# Altium integrated library Controls_Components.IntLib: 5 symbols
Pins are listed as number, name and electrical type; pins without a type are passive.

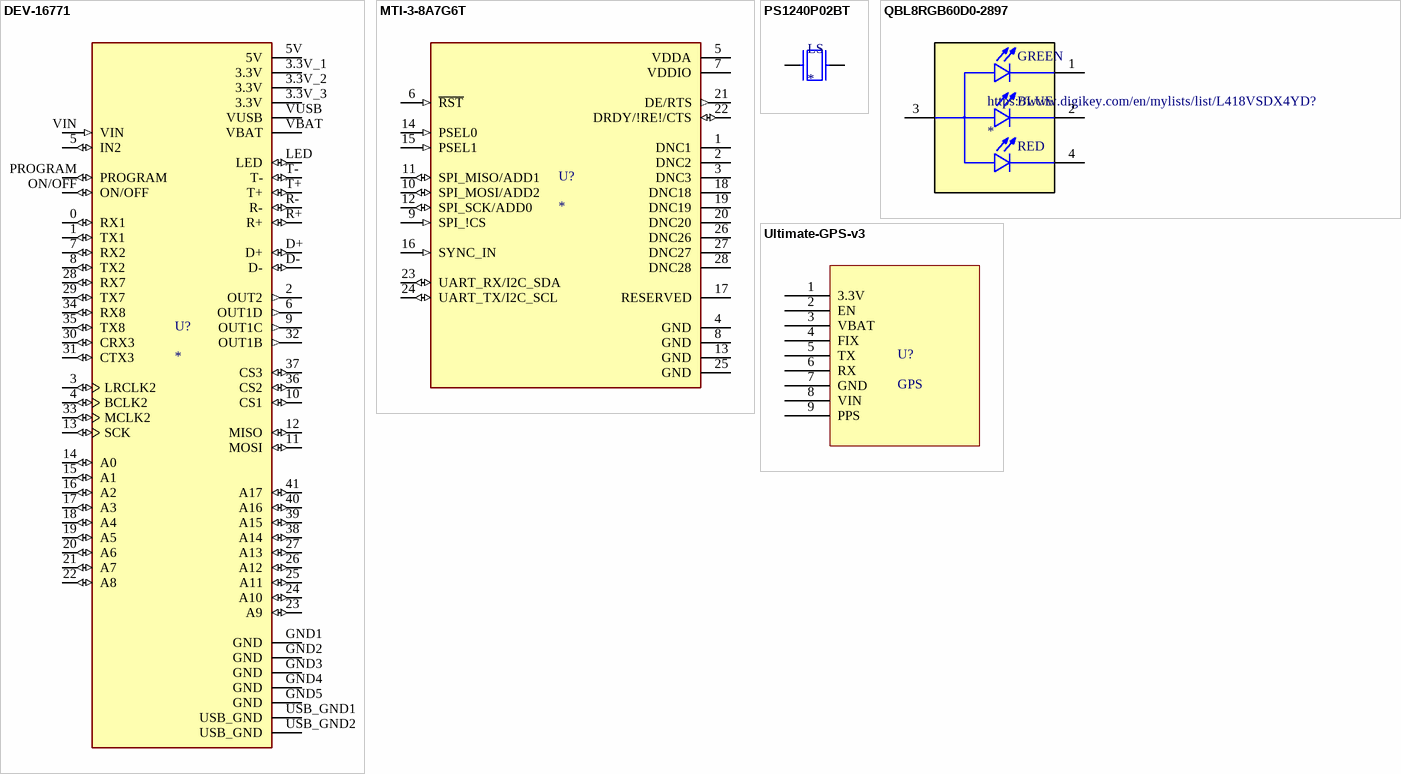
[diagram p0: symbols DEV-16771 to Ultimate-GPS-v3]

## DEV-16771
designator U?
RT1062 Teensy 4.1 series ARM® Cortex®-M7 MPU Embedded Evaluation Board; MF: SparkFun Electronics; MP: DEV-16771; SnapEDA_Link: https://www.snapeda.com/parts/DEV-16771/SparkFun+Electronics/view-part/?ref=snap; Package: None; Value: *; Check_prices: https://www.snapeda.com/parts/DEV-16771/SparkFun+Electronics/view-part/?ref=eda
footprint MODULE_DEV-16771
pins: 0 RX1 (io), 1 TX1 (io), 2 OUT2 (out), 3 LRCLK2 (io), 3.3V_1 3.3V (power), 3.3V_2 3.3V (power), 3.3V_3 3.3V (power), 4 BCLK2 (io), 5 IN2 (io), 5V (power), 6 OUT1D (out), 7 RX2 (io), 8 TX2 (io), 9 OUT1C (out), 10 CS1 (io), 11 MOSI (io), 12 MISO (io), 13 SCK (io), 14 A0 (io), 15 A1 (io), 16 A2 (io), 17 A3 (io), 18 A4 (io), 19 A5 (io), 20 A6 (io), 21 A7 (io), 22 A8 (io), 23 A9 (io), 24 A10 (io), 25 A11 (io), 26 A12 (io), 27 A13 (io), 28 RX7 (io), 29 TX7 (io), 30 CRX3 (io), 31 CTX3 (io), 32 OUT1B (out), 33 MCLK2 (io), 34 RX8 (io), 35 TX8 (io), 36 CS2 (io), 37 CS3 (io), 38 A14 (io), 39 A15 (io), 40 A16 (io), 41 A17 (io), D+ (io), D- (io), GND1 GND (power), GND2 GND (power), GND3 GND (power), GND4 GND (power), GND5 GND (power), LED (io), ON/OFF (io), PROGRAM (io), R+ (io), R- (io), T+ (io), T- (io), USB_GND1 USB_GND (power), USB_GND2 USB_GND (power), VBAT, VIN (in), VUSB

## MTI-3-8A7G6T
designator U?
Accelerometer, Gyroscope, Magnetometer, 9 Axis Sensor IÂ²C, SPI Output; MF: XSens Technologies; MP: MTI-3-8A7G6T; Price: None; Check_prices: https://www.snapeda.com/parts/MTI-3-8A7G6T/XSens%20Technologies%20BV/view-part/1464840/?ref=eda; Value: *; SnapEDA_Link: https://www.snapeda.com/parts/MTI-3-8A7G6T/XSens%20Technologies%20BV/view-part/1464840/?ref=snap; Availability: Bad; Package: SMD-28 Xsens Technologies
footprint MODULE_MTI-3-8A7G6T
pins: 1 DNC1, 2 DNC2, 3 DNC3, 4 GND (power), 5 VDDA (power), 6 ~{RST} (in), 7 VDDIO (power), 8 GND (power), 9 SPI_!CS (in), 10 SPI_MOSI/ADD2 (io), 11 SPI_MISO/ADD1 (io), 12 SPI_SCK/ADD0 (io), 13 GND (power), 14 PSEL0 (in), 15 PSEL1 (in), 16 SYNC_IN (in), 17 RESERVED, 18 DNC18, 19 DNC19, 20 DNC20, 21 DE/RTS (out), 22 DRDY/!RE!/CTS (io), 23 UART_RX/I2C_SDA (io), 24 UART_TX/I2C_SCL (io), 25 GND (power), 26 DNC26, 27 DNC27, 28 DNC28

## PS1240P02BT
designator LS
Buzzers Transducer, Externally Driven Piezo 3V 4kHz 60dB @ 3V, 10cm Through Hole PC Pins; MP: PS1240P02BT; MF: TDK; Availability: Unavailable; Package: 2020 TDK; Value: *; Price: None; SnapEDA_Link: https://www.snapeda.com/parts/PS1240P02BT/TDK/view-part/53420/?ref=snap
footprint XDCR_PS1240P02BT
pins: 1, 2

## QBL8RGB60D0-2897
designator https://www.digikey.com/en/mylists/list/L418VSDX4YD?
Red, Green, Blue (RGB) 624nm Red, 525nm Green, 470nm Blue LED Indication - Discrete 2V Red, 3.2V Green, 3.2V Blue Radial; MF: QT Brightek (QTB); MP: QBL8RGB60D0-2897; SnapEDA_Link: https://www.snapeda.com/parts/QBL8RGB60D0-2897/QT/view-part/?ref=snap; Package: Radial QT Brightek (QTB); Value: *; Check_prices: https://www.snapeda.com/parts/QBL8RGB60D0-2897/QT/view-part/?ref=eda
footprint LED_QBL8RGB60D0-2897
pins: 1 CATHODE_GREEN, 2 CATHODE_BLUE, 3 COMMON_ANODE, 4 CATHODE_RED
text: GREEN; BLUE; RED

## Ultimate-GPS-v3
designator U?, comment GPS
footprint Ultimate-GPS-v3
pins: 1 3.3V, 2 EN, 3 VBAT, 4 FIX, 5 TX, 6 RX, 7 GND, 8 VIN, 9 PPS